# Altium footprint library CUI_MJ-3536N.PcbLib: 1 footprints
Each footprint in its own frame and in the unit in brackets; x right, y up, seen from the top. Pads: shape width x height; smd on the part's side, far side on the other; paste and mask are expansions set on the pad; w line width, h text height; cw(c..) or ccw(c..) is an arc to the next point about the centre after c.
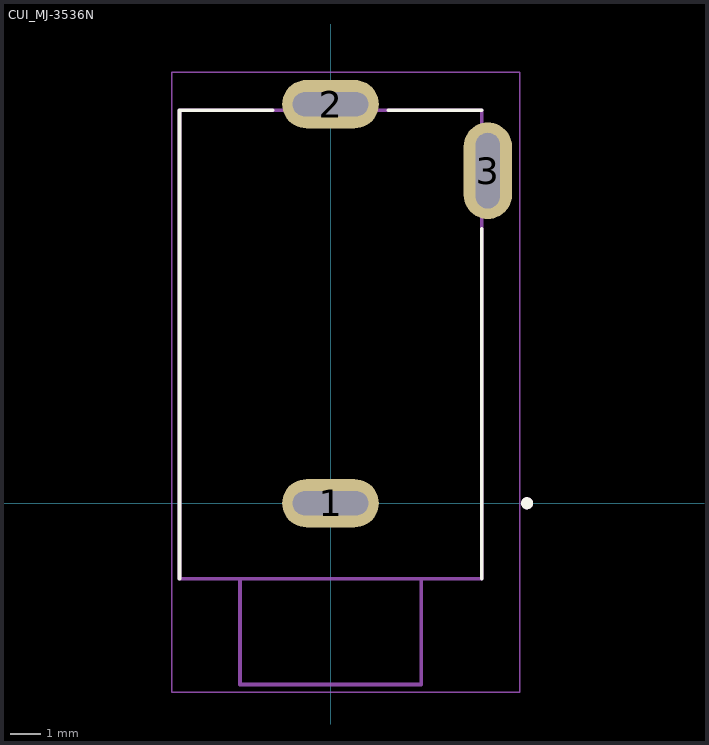
[diagram p0: the footprint, top view; thin cyan lines are the x and y axes]

## CUI_MJ-3536N [mm]
height 10
pads (3):
  oval 3.2x1.6 hole 0.8 slot 2.5 at 0 deg: 1(0,0) 2(0,13.2)
  oval 1.6x3.2 hole 0.8 slot 2.5 at 90 deg: 3(5.2,11)
Top Overlay:
  circle w0.2: c6.5,0 r0.1
  lines w0.127: -5,-2.5 -5,13 -1.92,13 ; 1.92,13 5,13 ; 5,-2.5 5,9.08
Mechanical 13:
  circle w0.2: c6.5,0 r0.1
  lines w0.127: -3,-2.5 -3,-6 3,-6 3,-2.5 ; -3,-2.5 -5,-2.5 -5,13 5,13 5,-2.5 3,-2.5 ; -3,-2.5 3,-2.5
Mechanical 15:
  lines w0.05: -5.25,-6.25 -5.25,14.25 6.25,14.25 6.25,-6.25 -5.25,-6.25